# Altium footprint library 2EHDVC-07P.PcbLib: 1 footprints
Each footprint in its own frame and in the unit in brackets; x right, y up, seen from the top. Pads: shape width x height; smd on the part's side, far side on the other; paste and mask are expansions set on the pad; w line width, h text height; cw(c..) or ccw(c..) is an arc to the next point about the centre after c.
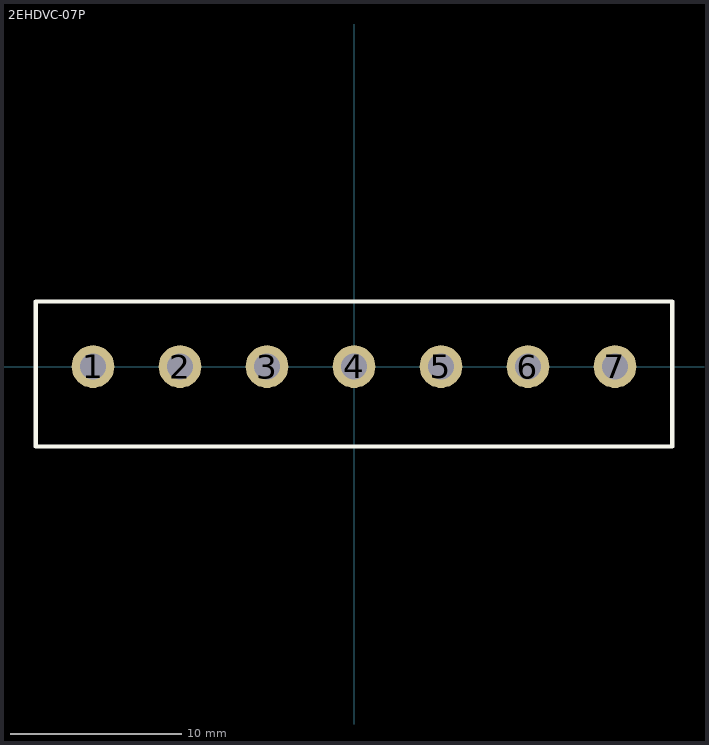
[diagram p0: the footprint, top view; thin cyan lines are the x and y axes]

## 2EHDVC-07P [mm] "2EHDVC-07P"
pads (7):
  round 2.5 hole 1.5: 1(-15.24,0) 2(-10.16,0) 3(-5.08,0) 4(0,0) 5(5.08,0) 6(10.16,0) 7(15.24,0)
Top Overlay:
  lines w0.254: -18.58,-4.67 -18.58,3.8 ; -18.5,-4.67 18.5,-4.67 ; -18.5,3.8 18.5,3.8 ; 18.58,-4.67 18.58,3.8
3D body: height 8.6, standoff 0, extent -18.5,-4.67 18.5,3.8